# Altium schematic symbol library hphonglib.SchLib: 598 symbols (part 4 of 8)
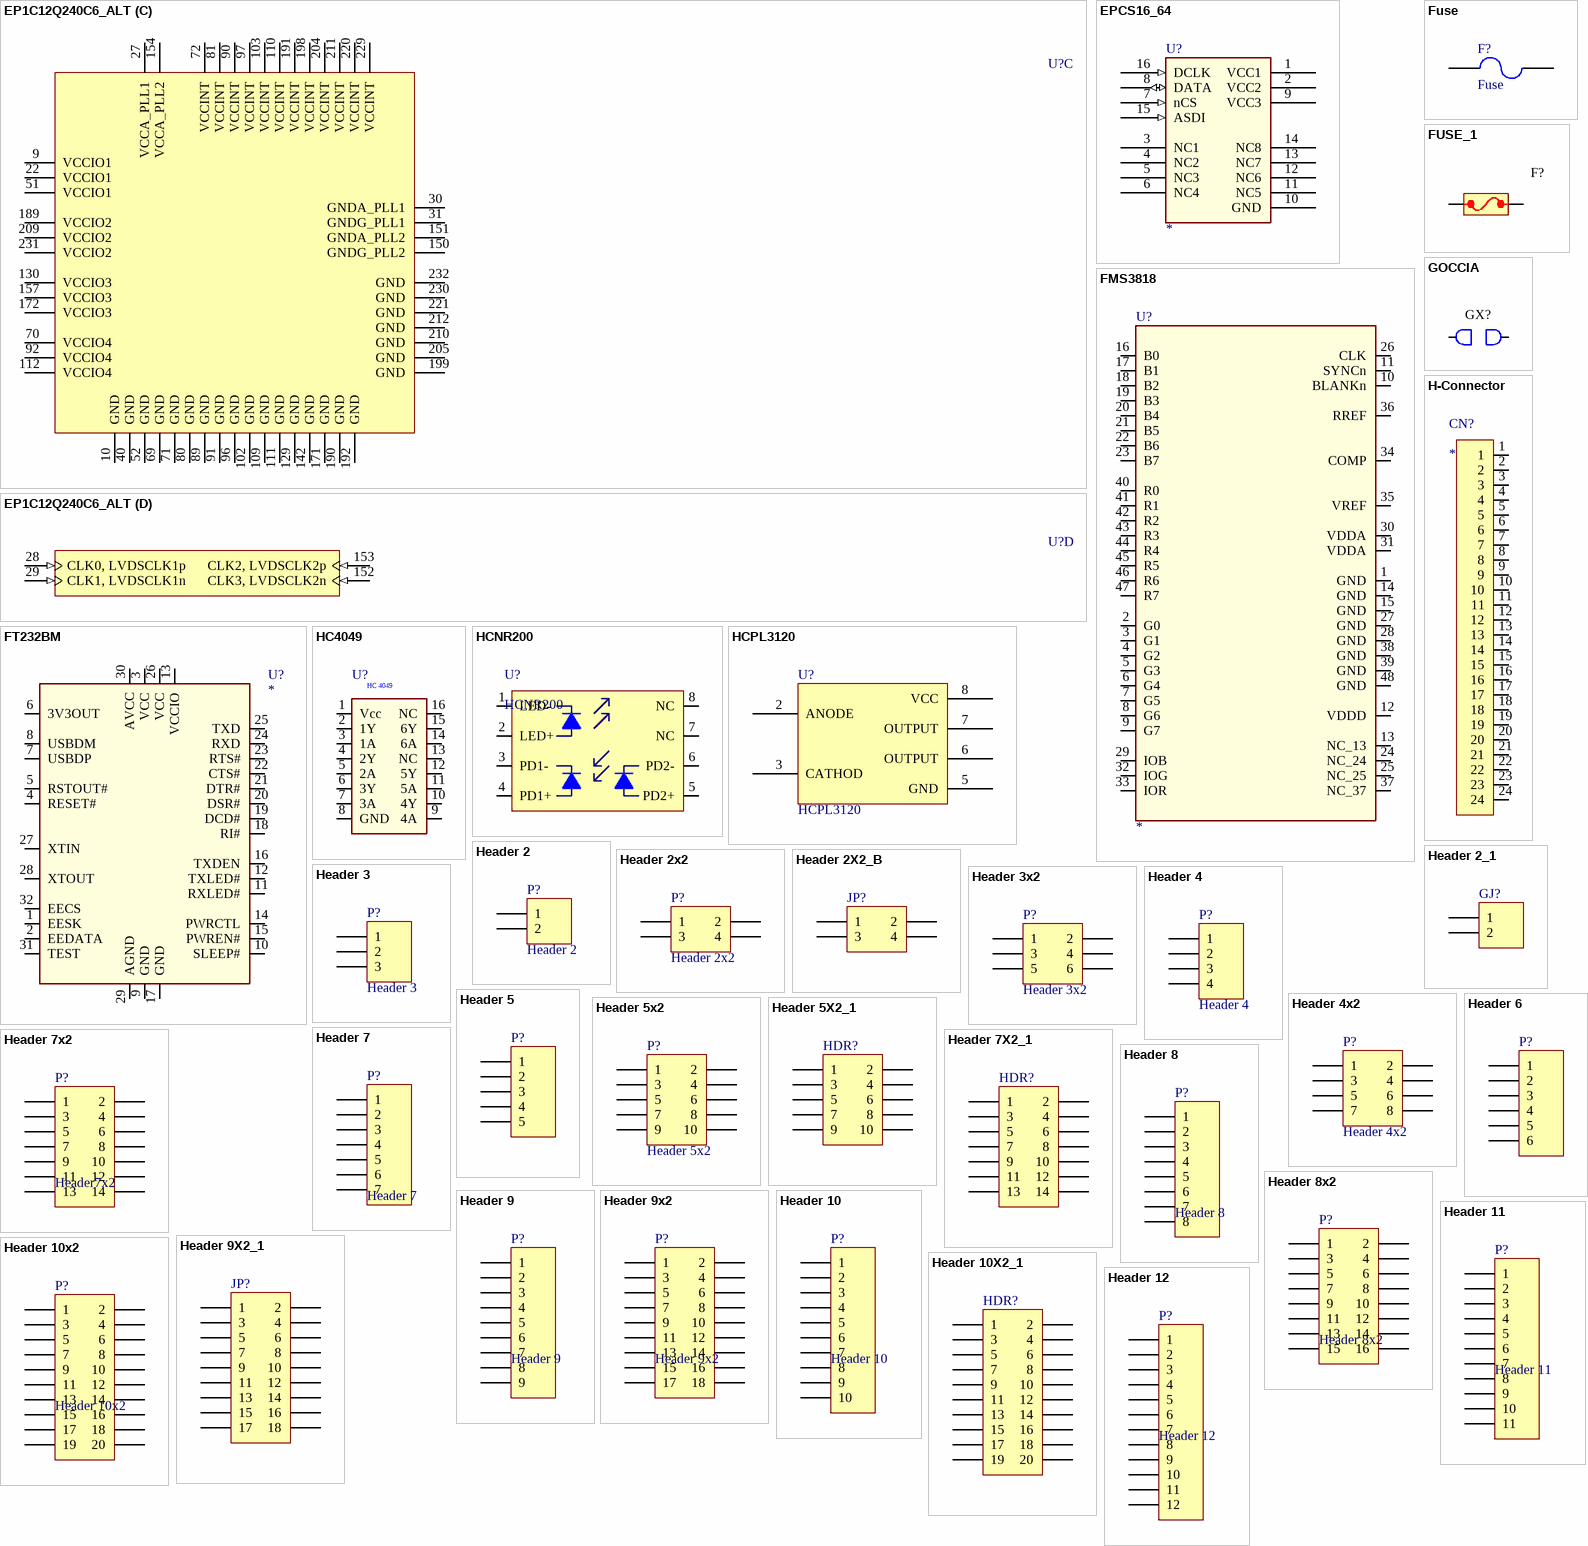
[diagram p34: symbols EP1C12Q240C6_ALT to Header 12]

## Header 11
designator P?
Header, 11-Pin; LatestRevisionDate: 17-Jul-2002; LatestRevisionNote: Re-released for DXP Platform.; Publisher: Altium Limited
footprint Header 11 (Connector; Header; 11 Position; Solder Pad 35mil)
footprint Header 11-V (Connector; Header; 11 Position; Vertical; Solder Pad 35mil)
pins: 1, 2, 3, 4, 5, 6, 7, 8, 9, 10, 11

## Header 12
designator P?
Header, 11-Pin; LatestRevisionDate: 17-Jul-2002; LatestRevisionNote: Re-released for DXP Platform.; Publisher: Altium Limited
footprint Header 12 (Connector; Header; 12 Position; Solder Pad 35mil)
footprint Header 12-V (Connector; Header; 12 Position; Vertical; Solder Pad 35mil)
pins: 1, 2, 3, 4, 5, 6, 7, 8, 9, 10, 11, 12

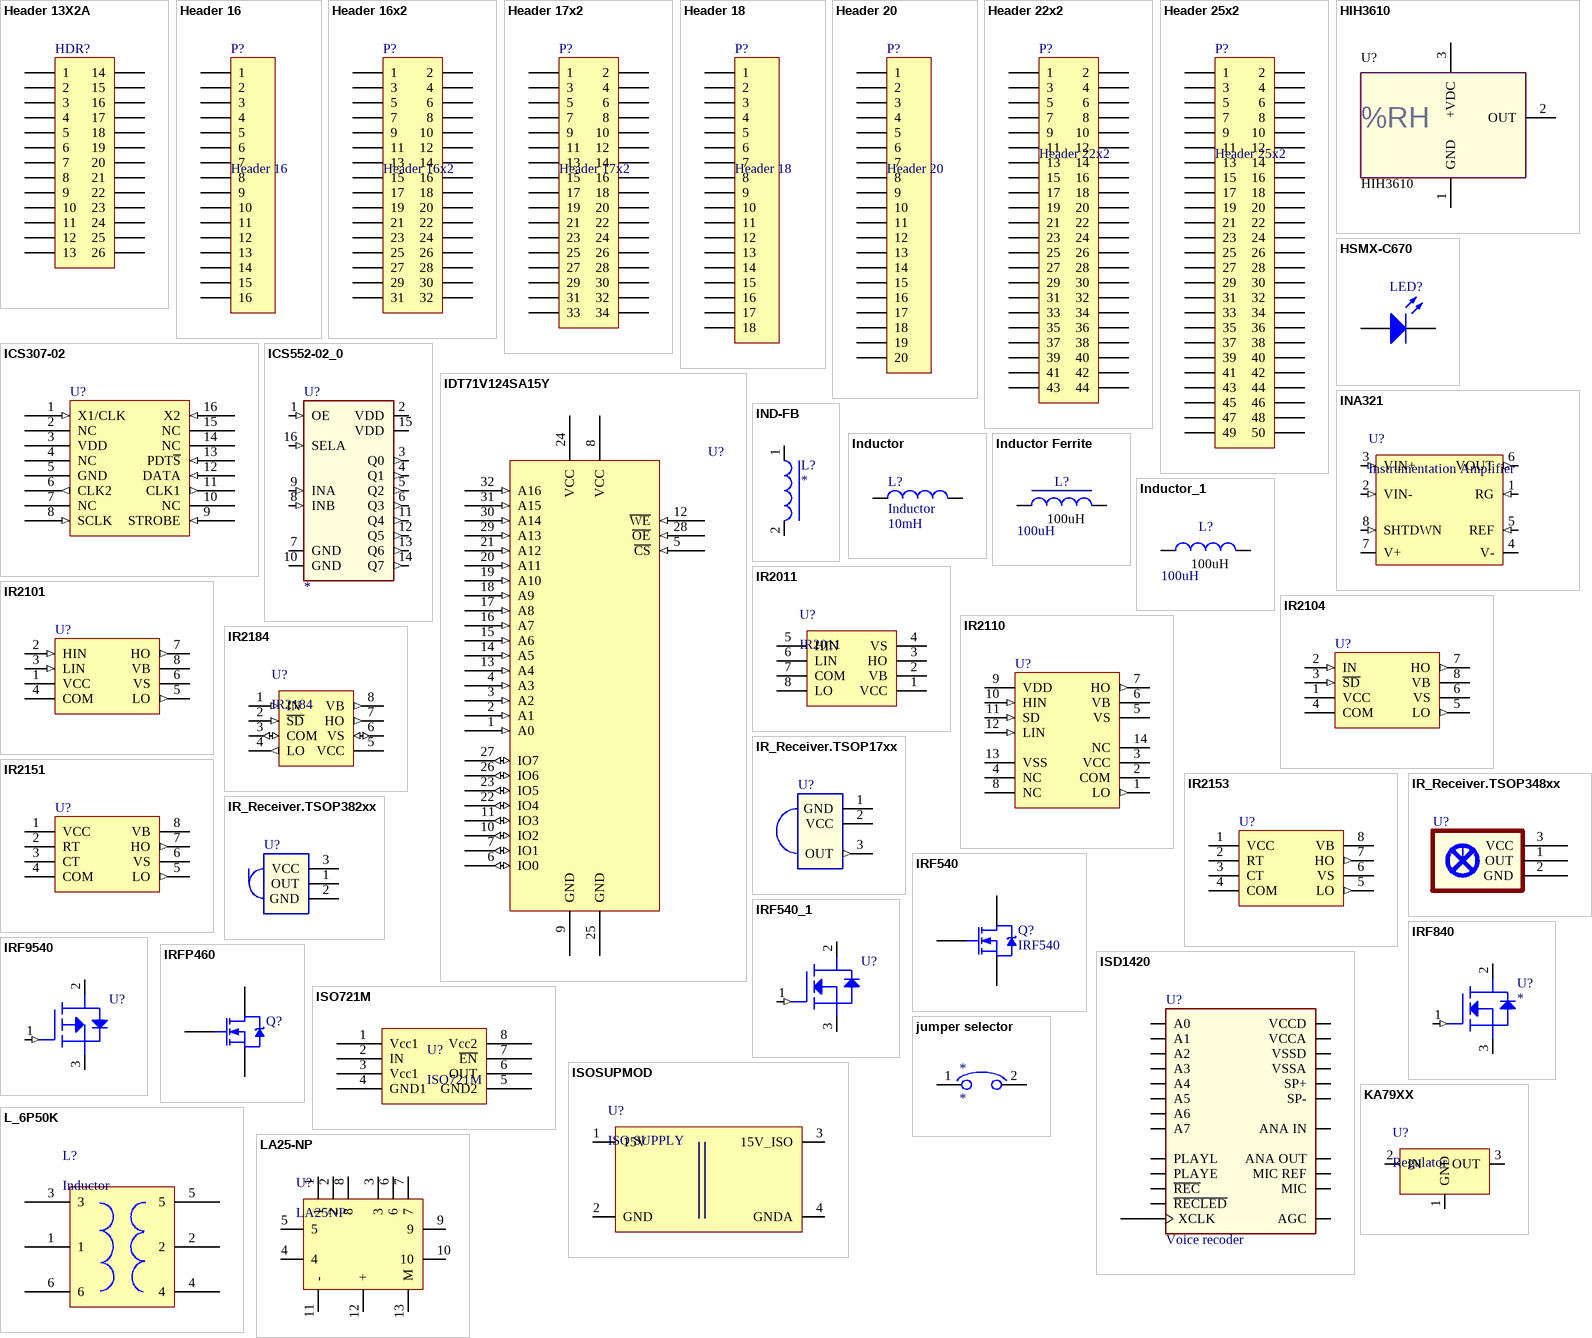
[diagram p13: symbols Header 13X2A to LA25-NP]

## Header 13X2A
designator HDR?
3012 Series Box Header, 26 Pins, Dual Row, 2.54mm pitch, Low Profile Vertical; Vendor: Digikey; Published: 5-Jan-2004; Publisher: Altium Limited; ComponentLink1Description: Digikey Part Link; ComponentLink2Description: Open Datasheet; ComponentLink2URL: H:\LIBRARY\LIBRARY.Datasheet\
footprint HDR2X13_CEN_LP (3012 Series Box Header, 26 Pins, Dual Row, 2.54mm Pitch)
pcadlib HDR2X13_CEN_LP (3012 Series Box Header, 26 Pins, Dual Row, 2.54mm Pitch)
pins: 1, 2, 3, 4, 5, 6, 7, 8, 9, 10, 11, 12, 13, 14, 15, 16, 17, 18, 19, 20, 21, 22, 23, 24, 25, 26

## Header 16
designator P?
Header, 16-Pin; LatestRevisionDate: 17-Jul-2002; LatestRevisionNote: Re-released for DXP Platform.; Publisher: Altium Limited
footprint Header 16 (Connector; Header; 16 Position; Solder Pad 35mil)
footprint Header 16-V (Connector; Header; 16 Position; Vertical; Solder Pad 35mil)
pins: 1, 2, 3, 4, 5, 6, 7, 8, 9, 10, 11, 12, 13, 14, 15, 16

## Header 16x2
designator P?
Header, 34-Pin; LatestRevisionDate: 17-Jul-2002; LatestRevisionNote: Re-released for DXP Platform.; Publisher: Altium Limited
footprint Header 16x2 (Connector; Header; 32 Position; 2 Rows; Solder Pad 35mil)
pins: 1, 2, 3, 4, 5, 6, 7, 8, 9, 10, 11, 12, 13, 14, 15, 16, 17, 18, 19, 20, 21, 22, 23, 24, 25, 26, 27, 28, 29, 30, 31, 32

## Header 17x2
designator P?
Header, 34-Pin; LatestRevisionDate: 17-Jul-2002; LatestRevisionNote: Re-released for DXP Platform.; Publisher: Altium Limited
footprint Header 17x2 (Connector; Header; 34 Position; 2 Rows; Solder Pad 35mil)
pins: 1, 2, 3, 4, 5, 6, 7, 8, 9, 10, 11, 12, 13, 14, 15, 16, 17, 18, 19, 20, 21, 22, 23, 24, 25, 26, 27, 28, 29, 30, 31, 32, 33, 34

## Header 18
designator P?
Header, 18-Pin; LatestRevisionDate: 17-Jul-2002; LatestRevisionNote: Re-released for DXP Platform.; Publisher: Altium Limited
footprint Header 18 (Connector; Header; 18 Position; Solder Pad 35mil)
footprint Header 18-V (Connector; Header; 18 Position; Vertical; Solder Pad 35mil)
pins: 1, 2, 3, 4, 5, 6, 7, 8, 9, 10, 11, 12, 13, 14, 15, 16, 17, 18

## Header 20
designator P?
Header, 20-Pin; LatestRevisionDate: 17-Jul-2002; LatestRevisionNote: Re-released for DXP Platform.; Publisher: Altium Limited
footprint Header 20 (Connector; Header; 20 Position; Solder Pad 35mil)
footprint Header 20-V (Connector; Header; 20 Position; Vertical; Solder Pad 35mil)
pins: 1, 2, 3, 4, 5, 6, 7, 8, 9, 10, 11, 12, 13, 14, 15, 16, 17, 18, 19, 20

## Header 22x2
designator P?
Header, 44-Pin, 2-Row; LatestRevisionDate: 17-Jul-2002; LatestRevisionNote: Re-released for DXP Platform.; Publisher: Altium Limited
footprint Header 22x2 (Connector; Header; 44 Position; 2 Rows)
footprint M_Header 22x2 (Connector; Header; 44 Position; 2 Rows; Manufacture-Solder Pad 24mil)
pins: 1, 2, 3, 4, 5, 6, 7, 8, 9, 10, 11, 12, 13, 14, 15, 16, 17, 18, 19, 20, 21, 22, 23, 24, 25, 26, 27, 28, 29, 30, 31, 32, 33, 34, 35, 36, 37, 38, 39, 40, 41, 42, 43, 44

## Header 25x2
designator P?
Header, 50-Pin, 2-Row; LatestRevisionDate: 17-Jul-2002; LatestRevisionNote: Re-released for DXP Platform.; Publisher: Altium Limited
footprint Header 25x2 (Connector; Header; 50 Position; 2 Rows; Solder Pad 35mil)
pins: 1, 2, 3, 4, 5, 6, 7, 8, 9, 10, 11, 12, 13, 14, 15, 16, 17, 18, 19, 20, 21, 22, 23, 24, 25, 26, 27, 28, 29, 30, 31, 32, 33, 34, 35, 36, 37, 38, 39, 40, 41, 42, 43, 44, 45, 46, 47, 48, 49, 50

## HIH3610
designator U?
Humidity sensor; Value: *; ComponentLink2URL: H:\LIBRARY\LIBRARY.Datasheet\
footprint HIH3610
pins: 1 GND, 2 OUT, 3 +VDC
text: %RH

## HSMX-C670
designator LED?
RED AS AlGaAs SMD LED; Vendor: Digikey; Published: 5-Jan-2004; DatasheetDocument: 30-Apr-2002; Publisher: Altium Limited; ComponentLink1Description: Digikey Part Link; ComponentLink2Description: Open Datasheet; ComponentLink2URL: H:\LIBRARY\LIBRARY.Datasheet\
footprint SMD _LED (RED AS AlGaAs SMD LED, Body; 2mm x 1.25 mm (LxW))
pcadlib SMD _LED (RED AS AlGaAs SMD LED, Body; 2mm x 1.25 mm (LxW))
pins: 1 A, 2 K

## ICS307-02
designator U?
Serially Programmable Clock Source; Vendor: Digikey; Published: 5-Jan-2004; DatasheetDocument: 03-Jun-2003; Publisher: Altium Limited; ComponentLink1Description: Digikey Part Link; ComponentLink2Description: Open Datasheet; ComponentLink2URL: H:\LIBRARY\LIBRARY.Datasheet\
footprint SO-G16 (Small Outline; 16 Leads; Body Width 3.5 mm; Pitch 1.27 mm)
pcadlib SO-G16 (Small Outline; 16 Leads; Body Width 3.5 mm; Pitch 1.27 mm)
pins: 1 X1/CLK (in) "Reference Word Devider Input", 2 NC "Reference Word Devider Input", 3 VDD (power) "Positive Supply, 3V3 or 5V", 4 NC, 5 GND (power), 6 CLK2 (out) "Fixed Clock Ref", 7 NC "Crystal connection", 8 SCLK (in) "Serial Programming Clock", 9 STROBE (in) "Serial Programming Strobe", 10 NC, 11 CLK1 (out) "Variable Clock Output", 12 DATA (in) "Serial Programming Data", 13 PDT~{S} (in) "Low = TriState CLK1 and CLK2 and Power Down", 14 NC, 15 NC, 16 X2 (in) "Crystal Terminal"

## ICS552-02_0
designator U?
ComponentLink1Description: Digikey Part Link; ComponentLink2Description: Open Datasheet; ComponentLink2URL: H:\LIBRARY\LIBRARY.Datasheet\
footprint 8_LEAD_SOIC
pins: 1 OE (in), 2 VDD (power), 3 Q0 (out), 4 Q1 (out), 5 Q2 (out), 6 Q3 (out), 7 GND (power), 8 INB (in), 9 INA (in), 10 GND (power), 11 Q4 (out), 12 Q5 (out), 13 Q6 (out), 14 Q7 (out), 15 VDD (power), 16 SELA (in)

## IDT71V124SA15Y
designator U?
CMOS Static RAM, 3.3V, 128K x 8 bit; Vendor: Digikey; Published: 5-Jan-2004; DatasheetDocument: 30-Nov-2003; Publisher: Altium Limited; ComponentLink1Description: Digikey Part Link; ComponentLink2Description: Open Datasheet; ComponentLink2URL: H:\LIBRARY\LIBRARY.Datasheet\
footprint SO-J32 (SOJ; 32 Leads; Body Width 7.5 mm; Pitch 1.27 mm)
pcadlib SO-J32 (SOJ; 32 Leads; Body Width 7.5 mm; Pitch 1.27 mm)
pins: 1 A0 (in) "Address 0", 2 A1 (in) "Address 1", 3 A2 (in) "Address 3", 4 A3 (in) "Address 3", 5 ~{CS} (in) "Chip Select", 6 IO0 (io) "Data 0", 7 IO1 (io) "Data 1", 8 VCC (power) "Pos Supply", 9 GND (power), 10 IO2 (io) "Data 2", 11 IO3 (io) "Data 3", 12 ~{WE} (in) "Write Enable", 13 A4 (in) "Address 4", 14 A5 (in) "Address 5", 15 A6 (in) "Address 6", 16 A7 (in) "Address 7", 17 A8 (in) "Address 8", 18 A9 (in) "Address 9", 19 A10 (in) "Address 10", 20 A11 (in) "Address 11", 21 A12 (in) "Address 12", 22 IO4 (io) "Data 4", 23 IO5 (io) "Data 5", 24 VCC (power) "Pos Supply", 25 GND (power), 26 IO6 (io) "Data 6", 27 IO7 (io) "Data 7", 28 ~{OE} (in) "Output Enable", 29 A13 (in) "Address 13", 30 A14 (in) "Address 14", 31 A15 (in) "Address 15", 32 A16 (in) "Address 16"

## INA321
designator U?, comment Instrumentation Amplifier
microPower, Single-Supply, CMOS Instrumentation Amplifier; Manufacturer: Texas Instrument; Vendor: Digikey; Publisher: Hoang Nguyen; ComponentLink1Description: Digikey Part Link; ComponentLink1URL: http://search.digikey.com/scripts/DkSearch/dksus.dll?Detail&name=INA321EACT-ND; ComponentLink2URL: H:\LIBRARY\LIBRARY.Datasheet\ina321.pdf; ComponentLink2Description: Open Datasheet; Price: 2.7 [USD]; Published: 13-April-2009
footprint SOP8.S-PDSO-G8
pins: 1 RG (in), 2 VIN- (in), 3 VIN+ (in), 4 V- (power), 5 REF (in), 6 VOUT (out), 7 V+ (power), 8 SHTDWN (in)

## IND-FB
designator L?
ComponentLink1Description: Digikey Part Link; ComponentLink2Description: Open Datasheet; ComponentLink2URL: H:\LIBRARY\LIBRARY.Datasheet\
pins: 1, 2

## Inductor
designator L?  value 10mH
Code_IEC: 1005; Published: 8-Jun-2000; LatestRevisionDate: 17-Jul-2002; LatestRevisionNote: Re-released for DXP Platform.; PackageReference: 0402-A; Publisher: Altium Limited; Code_JEITA: 0402
footprint Inductor 5A (Inductor 5A; Solder Pad 35mil)
footprint L-0805 (Chip Inductor; Body 2.0 x 1.3 mm (LxW typ))
footprint Coil (Ferrite Coil; Filter; Solder Pad 35mil)
pins: 1, 2

## Inductor Ferrite
designator L?, comment 100uH
Cuon Cam L; Code_IEC: 1005; Vendor: Digikey; Published: 8-Jun-2000; LatestRevisionDate: 17-Jul-2002; LatestRevisionNote: Re-released for DXP Platform.; PackageReference: 0402-A; Publisher: Altium Limited; Code_JEITA: 0402; ComponentLink1Description: Digikey Part Link; ComponentLink2Description: Open Datasheet; ComponentLink2URL: H:\LIBRARY\LIBRARY.Datasheet\; Value: 100uH
signal-integrity model Inductor
footprint IMPESMD1
footprint Cuon day ferrite
footprint loi ferrit 2A (Body round radial diam 7.5mm - hight 9.5mm)
footprint ferrite bead (Res 8mm*2mm)
footprint IMPE6 (Body 8.0x5.6 mm Radial - 200 mils)
pins: 1, 2

## Inductor_1
designator L?, comment 100uH
Cuon Cam L; Code_IEC: 1005; Vendor: Digikey; Published: 8-Jun-2000; LatestRevisionDate: 17-Jul-2002; LatestRevisionNote: Re-released for DXP Platform.; PackageReference: 0402-A; Publisher: Altium Limited; Code_JEITA: 0402; ComponentLink1Description: Digikey Part Link; ComponentLink2Description: Open Datasheet; ComponentLink2URL: H:\LIBRARY\LIBRARY.Datasheet\; Value: 100uH
signal-integrity model Inductor
footprint IMPE1 (Body 23x10 mm Horiz. - 900 mils)
footprint IMPE2 (Body 10x7.5 mm Horiz. - 600 mils)
footprint IMPE3 (Body 7.6x4.9 mm Radial - 300 mils)
footprint IMPE4 (Body 7.6x5.5 mm Radial - 250 mils)
footprint IMPE5 (Body 7.3x4.4 mm Radial - 200 mils)
footprint IMPE6 (Body 8.0x5.6 mm Radial - 200 mils)
footprint IMPE7-RS1 (Body round radial diam 7.5mm - hight 9.5mm)
footprint IMPE8-RS2 (Body round radial diam 10mm - hight 18mm)
footprint IMPESMD1
footprint L2012-0805 (Inductor Chip 0805 package)
footprint L1608-0603 (Inductor Chip 0603 package)
footprint Cuon day ferrite
pins: 1, 2

## IR2011
designator U?
HALF-BRIDGE DRIVER; Voffset: 600V(max); IO+/-: 130mA/270mA; Vout: 10-20V; Deadtime: 520ns; Input logic: 3V3/5V/15V
footprint Dip8 (Dual Inline Package 8 pins)
footprint dip8N (Dual Inline Package 8 pins)
footprint SOIC8N
pins: 1 VCC (power), 2 VB (power), 3 HO (power), 4 VS (power), 5 HIN (power), 6 LIN (power), 7 COM (power), 8 LO (power)

## IR2101
designator U?
High and Low Side Driver; Published: 8-Jun-2000; LatestRevisionDate: 04-Mar-2005; LatestRevisionNote: Stylized 3D Model Added.; DatasheetDocument: PD60043J; PackageReference: PDIP8; Publisher: Altium Limited; Code_JEDEC: MO-001-AN; ComponentLink1Description: Manufacturer Link; ComponentLink1URL: http://www.irf.com/
footprint DIP-8 (DIP, 8-Pin, Row Spacing 7.62 mm, Pitch 2.54 mm)
pins: 1 VCC (power), 2 HIN (in), 3 LIN (in), 4 COM (power), 5 LO (out), 6 VS (power), 7 HO (out), 8 VB (power)

## IR2104
designator U?
High and Low Side Driver; Published: 8-Jun-2000; LatestRevisionDate: 04-Mar-2005; LatestRevisionNote: Stylized 3D Model Added.; DatasheetDocument: PD600461; PackageReference: PDIP8; Publisher: Altium Limited; Code_JEDEC: MO-001-AN; ComponentLink1Description: Manufacturer Link; ComponentLink1URL: http://www.irf.com/; ComponentLink2Description: Datasheet; ComponentLink2URL: http://www.irf.com/product-info/datasheets/data/ir2104.pdf
footprint DIP-8 (DIP, 8-Pin, Row Spacing 7.62 mm, Pitch 2.54 mm)
pins: 1 VCC (power), 2 IN (in), 3 ~{SD} (in), 4 COM (power), 5 LO (out), 6 VS (power), 7 HO (out), 8 VB (power)

## IR2110
designator U?
High and Low Side Driver; Note: Pins 4, 8 and 14 are not connected; Published: 8-Jun-2000; LatestRevisionDate: 04-Mar-2005; LatestRevisionNote: Stylized 3D Model Added.; DatasheetDocument: PD60147J; PackageReference: PDIP14; Publisher: Altium Limited; ComponentLink1Description: Manufacturer Link; ComponentLink1URL: http://www.irf.com/; ComponentLink2Description: Datasheet; ComponentLink2URL: http://www.irf.com/product-info/datasheets/data/ir2110.pdf
footprint DIP-14 (DIP, 14-Pin, Row Spacing 7.62 mm, Pitch 2.54 mm)
pins: 1 LO (out), 2 COM (power), 3 VCC (power), 4 NC, 5 VS (power), 6 VB (power), 7 HO (out), 8 NC, 9 VDD (power), 10 HIN (in), 11 SD (in), 12 LIN (in), 13 VSS (power), 14 NC

## IR2151
designator U?
Self-Oscillating Half-Bridge Driver; Published: 8-Jun-2000; LatestRevisionDate: 04-Mar-2005; LatestRevisionNote: Stylized 3D Model Added.; DatasheetDocument: Mar-1999; PackageReference: PDIP8; Publisher: Altium Limited; Code_JEDEC: MO-001-AN; ComponentLink1Description: Manufacturer Link; ComponentLink1URL: http://www.irf.com/; ComponentLink2Description: Datasheet; ComponentLink2URL: http://www.irf.com/product-info/datasheets/data/ir2151.pdf
footprint DIP-8 (DIP, 8-Pin, Row Spacing 7.62 mm, Pitch 2.54 mm)
pins: 1 VCC (power), 2 RT, 3 CT, 4 COM (power), 5 LO (out), 6 VS (power), 7 HO (out), 8 VB (power)

## IR2153
designator U?
Self-Oscillating Half-Bridge Driver; Published: 8-Jun-2000; LatestRevisionDate: 04-Mar-2005; LatestRevisionNote: Stylized 3D Model Added.; DatasheetDocument: PD60062J; PackageReference: PDIP8; Publisher: Altium Limited; Code_JEDEC: MO-001-AN; ComponentLink1Description: Manufacturer Link; ComponentLink1URL: http://www.irf.com/; ComponentLink2Description: Datasheet; ComponentLink2URL: http://www.irf.com/product-info/datasheets/data/ir2153.pdf
footprint DIP-8 (DIP, 8-Pin, Row Spacing 7.62 mm, Pitch 2.54 mm)
pins: 1 VCC (power), 2 RT, 3 CT, 4 COM (power), 5 LO (out), 6 VS (power), 7 HO (out), 8 VB (power)

## IR2184
designator U?
HALF-BRIDGE DRIVER; Voffset: 600V(max); IO+/-: 130mA/270mA; Vout: 10-20V; Deadtime: 520ns; Input logic: 3V3/5V
footprint Dip8 (Dual Inline Package 8 pins)
footprint dip8N (Dual Inline Package 8 pins)
footprint SOIC8N
pins: 1 IN (in), 2 ~{SD} (in), 3 COM (io), 4 LO (out), 5 VCC (power), 6 VS (io), 7 HO (out), 8 VB (out)

## IR_Receiver.TSOP17xx
designator U?  (value not drawn)
Mat Thu tia hong ngoai TSOP17xx; Manufacturer: Vishay Semiconductors; Vendor: Digikey; Value: TSOP1738 38Khz; Published: 13-April-2009; Publisher: Hoang Nguyen; ComponentLink1Description: Digikey Part Link; ComponentLink2Description: Open Datasheet; ComponentLink2URL: H:\LIBRARY\LIBRARY.Datasheet\TSOP 17...pdf; Price: 500 VND
footprint ir receiver (IR Receiver)
pins: 1 GND (power), 2 VCC (power), 3 OUT (out)

## IR_Receiver.TSOP348xx
designator U?  (value not drawn)
Mat Thu tia hong ngoai TSOP348xx; Manufacturer: Vishay Semiconductors; Vendor: Digikey; Value: TSOP34840 - 40Khz; Published: 13-April-2009; Publisher: Hoang Nguyen; ComponentLink1Description: Digikey Part Link; ComponentLink2Description: Open Datasheet; ComponentLink2URL: H:\LIBRARY\LIBRARY.Datasheet\TSOP348xx.pdf
pins: 1 OUT, 2 GND (power), 3 VCC (power)

## IR_Receiver.TSOP382xx
designator U?  (value not drawn)
Mat Thu tia hong ngoai TSOP382xx; Manufacturer: Vishay Semiconductors; Vendor: Digikey; Value: TSOP38238 - 38Khz; Published: 13-April-2009; Publisher: Hoang Nguyen; ComponentLink1Description: Digikey Part Link; ComponentLink2Description: Open Datasheet; ComponentLink2URL: H:\LIBRARY\LIBRARY.Datasheet\TSOP382xx.pdf
pins: 1 OUT, 2 GND (power), 3 VCC (power)

## IRF540
designator Q?
HEXFET N-Channel Power MOSFET; Note: Pin 2 is electrically connected to pin 4.; Published: 8-Jun-2000; LatestRevisionDate: 17-Jul-2002; LatestRevisionNote: Re-released for DXP Platform.; DatasheetVersion: PD-9.373H; PackageVersion: Feb-1997; PackageReference: TO-220AB; Publisher: Altium Limited; PackageDescription: TO, Thru-Hole, Vertical, Heatsink Mounted; 3 In-Line Leads; Pitch 2.54 mm; ComponentLink1Description: Manufacturer Link; ComponentLink1URL: http://www.irf.com/
footprint TO-220-3 (TO-220; 3 Leads; Solder Pad 35mil)
footprint TO-220-3-Heatsink (TO-220; Heatsink; 3 Leads; Solder Pad 35mil)
pins: 1 G, 2 D, 3 S

## IRF540_1
designator U?  (value not drawn)
IRF9540 - N-CHANNEL POWER MOSFETS; Vendor: Digikey; Publisher: Hoang Nguyen; Price: 7.000 VND; ComponentLink2Description: Open Datasheet; ComponentLink2URL: H:\LIBRARY\LIBRARY.Datasheet\IRF540.pdf; Published: 13-April-2009; ComponentLink1Description: Digikey Part Link
footprint TO-263
footprint TO-220
footprint TO-220N
footprint TO220_Horizontal (TO, Thru-Hole, Horizontal Heatsink Mounted; 3 In-Line Leads; Pitch 2.54 mm)
footprint TO220_Hor_N (TO, Thru-Hole, Horizontal Heatsink Mounted; 3 In-Line Leads; Pitch 2.54 mm)
pins: 1 G (in), 2 D, 3 S

## IRF840
designator U?
Power FET; Vendor: Digikey; Published: 13-April-2009; Publisher: Hoang Nguyen; ComponentLink1Description: Digikey Part Link; ComponentLink2Description: Open Datasheet; ComponentLink2URL: H:\LIBRARY\LIBRARY.Datasheet\
pins: 1 G (in), 2 D, 3 S

## IRF9540
designator U?  (value not drawn)
IRF9540 - P-CHANNEL POWER MOSFETS; Vendor: Digikey; Publisher: Hoang Nguyen; Price: 7.000 VND; ComponentLink2Description: Open Datasheet; ComponentLink2URL: H:\LIBRARY\LIBRARY.Datasheet\IRF9540.pdf; Published: 13-April-2009; ComponentLink1Description: Digikey Part Link
footprint TO-263
footprint TO-220
footprint TO-220N
footprint TO220_Horizontal (TO, Thru-Hole, Horizontal Heatsink Mounted; 3 In-Line Leads; Pitch 2.54 mm)
footprint TO220_Hor_N (TO, Thru-Hole, Horizontal Heatsink Mounted; 3 In-Line Leads; Pitch 2.54 mm)
pins: 1 G (in), 2 D, 3 S

## IRFP460
designator Q?
HEXFET Power MOSFET; Note: Pin 2 is electrically connected to the Heatsink (4).; Published: 8-Jun-2000; LatestRevisionDate: 17-Jul-2002; LatestRevisionNote: Re-released for DXP Platform.; DatasheetVersion: PD-9.512B; PackageVersion: Aug-1997; PackageReference: TO-247AC; Publisher: Altium Limited; PackageDescription: SIP with Mounting Hole; 3 Leads; Body 20 x 15.6 x 5 mm (typ); Pitch 5.45 mm; Code_JEDEC: TO-247-AC; ComponentLink1Description: Manufacturer Link; ComponentLink1URL: http://www.irf.com/; ComponentLink2Description: Datasheet; ComponentLink2URL: http://www.irf.com/product-info/datasheets/data/irfp460.pdf
footprint TO-247 (TO-247; 3 Leads; Solder Pad 60mil)
simulation model IRFP460 (SUBCKT)
footprint TO-247-V (TO-247; Vertical; 3 Leads; Solder Pad 60mil)
pins: 1 G, 2 D, 3 S

## ISD1420
designator U?, comment Voice recoder
Voice recode / Playback 20-second duration; Manufacturer: Winbond Electronics Corp.; Vendor: TMe; Published: 13-April-2009; Publisher: Hoang Nguyen; ComponentLink1Description: Digikey Part Link; ComponentLink2Description: Open Datasheet; Price: 100.000 VND; ComponentLink2URL: H:\LIBRARY\LIBRARY.Datasheet\ISD1400_Rev1.3.pdf
pins: 1 A0, 2 A1, 3 A2, 4 A3, 5 A4, 6 A5, 9 A6, 10 A7, 12 VSSD (power), 13 VSSA (power), 14 SP+, 15 SP-, 16 VCCA (power), 17 MIC, 18 MIC REF, 19 AGC, 20 ANA IN, 21 ANA OUT, 23 PLAYL, 24 PLAYE, 25 ~{RECLED}, 26 XCLK, 27 ~{REC}, 28 VCCD (power)

## ISO721M
designator U?
3.3-V / 5-V High-speed Digital Isolators
footprint SOIC-8N (SOIC, 8-Leads, Body 4.9x3.9mm, Pitch 1.27mm, IPC High Density)
pins: 1 Vcc1, 2 IN, 3 Vcc1, 4 GND1, 5 GND2, 6 OUT, 7 ~{EN}, 8 Vcc2

## ISOSUPMOD
designator U?, comment ISO SUPPLY
pins: 1 15V, 2 GND, 3 15V_ISO, 4 GNDA

## jumper selector
designator *
pins: 1, 2

## KA79XX
designator U?, comment Regulator
footprint TO-220
pins: 1 GND, 2 IN, 3 OUT

## L_6P50K
designator L?, comment Inductor
footprint L_6P50K
pins: 1, 2, 3, 4, 5, 6

## LA25-NP
designator U?, comment LA25NP
footprint LA25NP (Current sensor 25A)
pins: 1, 2, 3, 4, 5, 6, 7, 8, 9, 10, 11 -, 12 +, 13 M

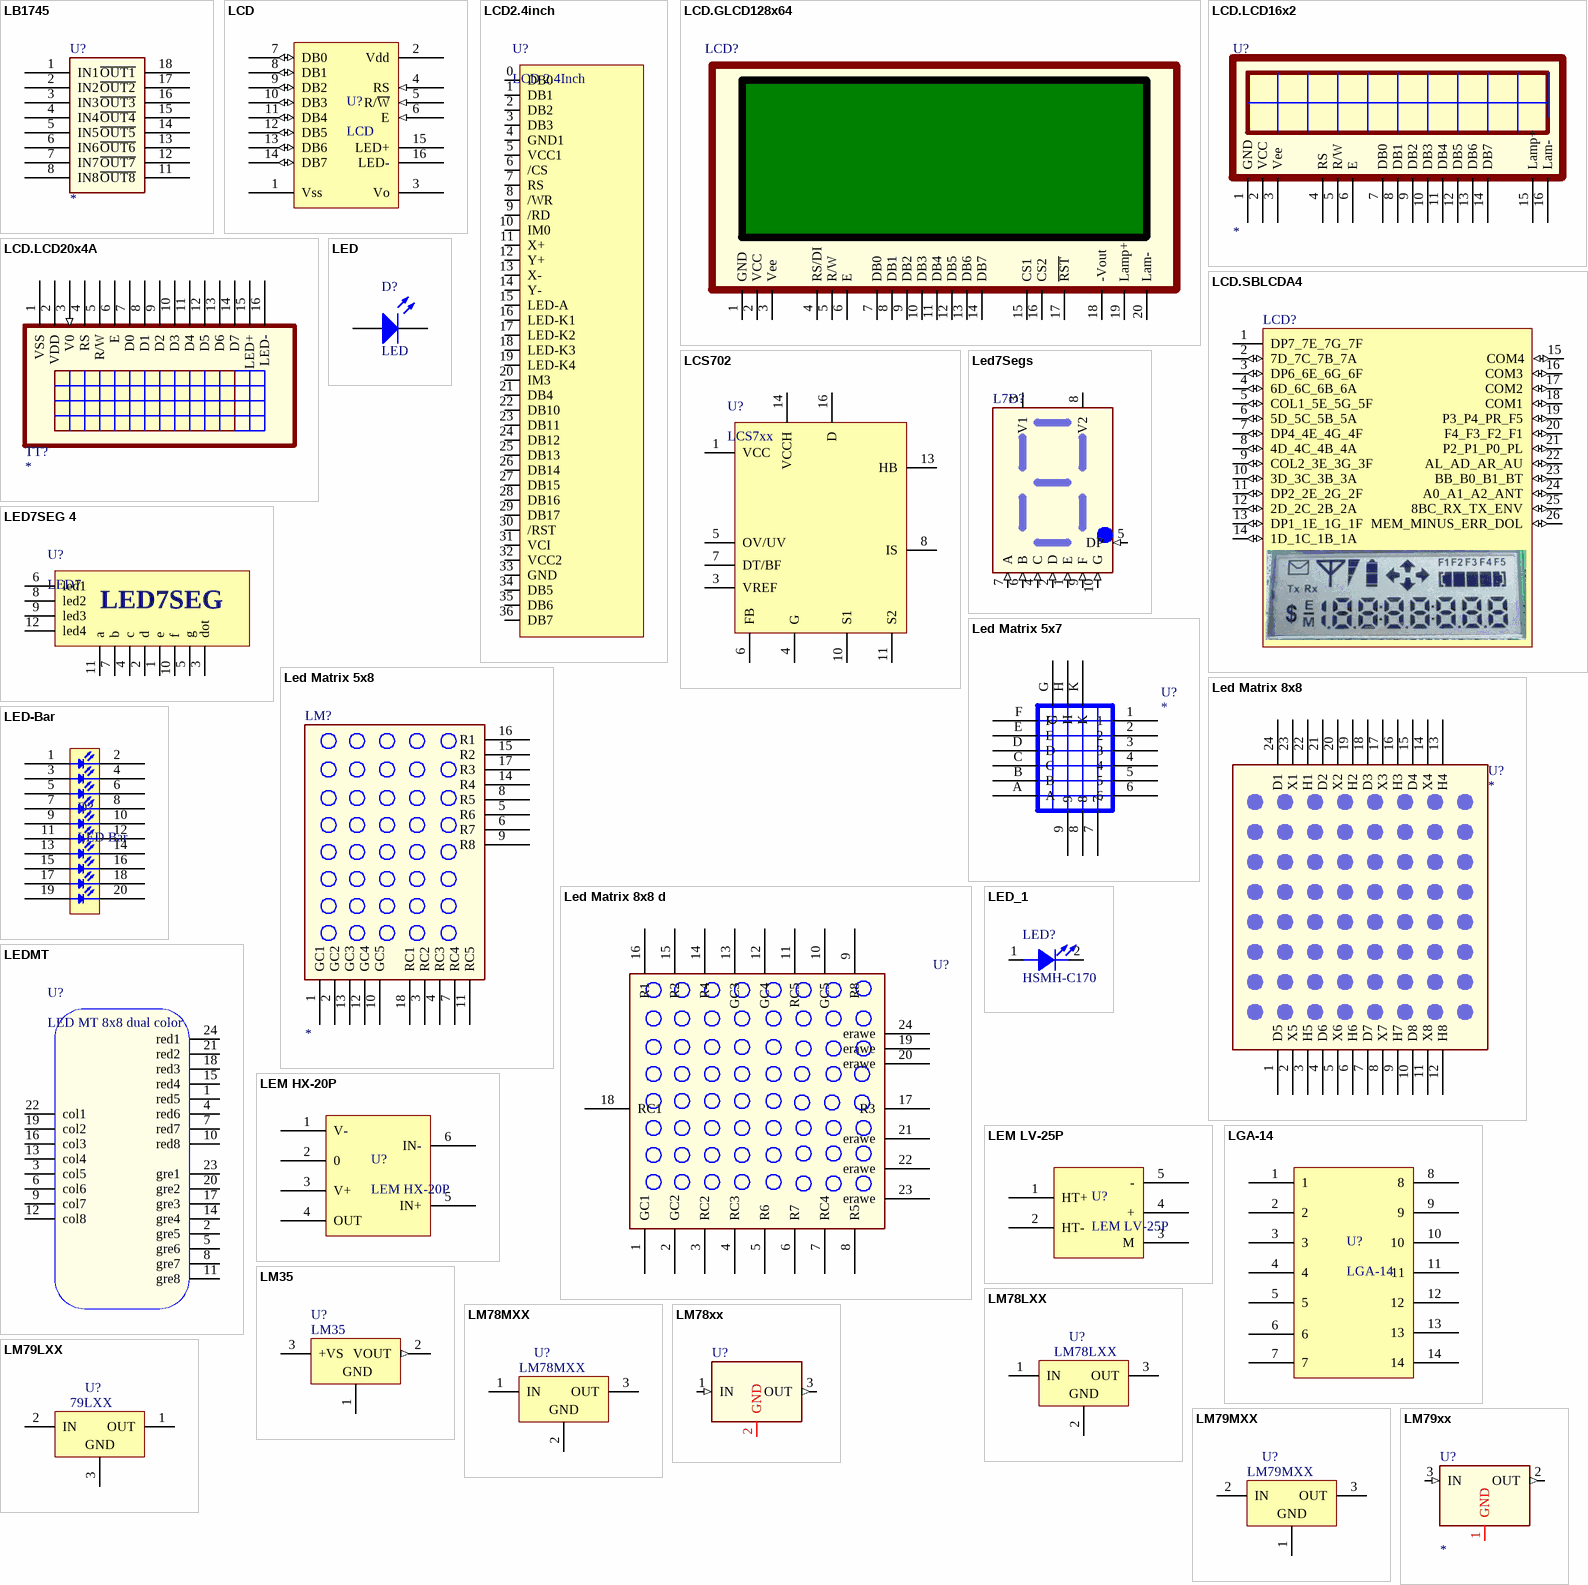
[diagram p14: symbols LB1745 to LM79xx]

## LB1745
designator U?
Vendor: Digikey; Published: 13-April-2009; Publisher: Hoang Nguyen; ComponentLink1Description: Digikey Part Link; ComponentLink2Description: Open Datasheet; ComponentLink2URL: H:\LIBRARY\LIBRARY.Datasheet\
footprint DIP18
pins: 1 IN1, 2 IN2, 3 IN3, 4 IN4, 5 IN5, 6 IN6, 7 IN7, 8 IN8, 9 VCC (power) hidden to VCC, 10 GND (power) hidden to GND, 11 ~{OUT8}, 12 ~{OUT7}, 13 ~{OUT6}, 14 ~{OUT5}, 15 ~{OUT4}, 16 ~{OUT3}, 17 ~{OUT2}, 18 ~{OUT1}

## LCD
designator U?
Character LCD, HD44780, 16-pin
footprint LCD-16x2 (Character LCD; 16x2; Solder Pad 35mil)
footprint LCD-20x2 (Character LCD; 20x2; Solder Pad 35mil)
pins: 1 Vss, 2 Vdd, 3 Vo, 4 RS (in), 5 R/~{W} (in), 6 E (in), 7 DB0 (io), 8 DB1 (io), 9 DB2 (io), 10 DB3 (io), 11 DB4 (io), 12 DB5 (io), 13 DB6 (io), 14 DB7 (io), 15 LED+, 16 LED-

## LCD2.4inch
designator U?, comment LCD 2.4Inch
footprint LCD2.4inch (www.wandisplay.com - KWH024Q04)
pins: 0 DB0, 1 DB1, 2 DB2, 3 DB3, 4 GND1, 5 VCC1, 6 /CS, 7 RS, 8 /WR, 9 /RD, 10 IM0, 11 X+, 12 Y+, 13 X-, 14 Y-, 15 LED-A, 16 LED-K1, 17 LED-K2, 18 LED-K3, 19 LED-K4, 20 IM3, 21 DB4, 22 DB10, 23 DB11, 24 DB12, 25 DB13, 26 DB14, 27 DB15, 28 DB16, 29 DB17, 30 /RST, 31 VCI, 32 VCC2, 33 GND, 34 DB5, 35 DB6, 36 DB7

## LCD.GLCD128x64
designator LCD?, comment GLCD128x64  (value not drawn)
Graphic LCD 128x64pixel; Price: 250.000VND; ComponentLink2Description: Open Datasheet; ComponentLink2URL: H:\LIBRARY\LIBRARY.Datasheet\
footprint LCD128x64 (Graphic LCD 128x64)
pins: 1 GND, 2 VCC, 3 Vee, 4 RS/DI, 5 R/W, 6 E, 7 DB0, 8 DB1, 9 DB2, 10 DB3, 11 DB4, 12 DB5, 13 DB6, 14 DB7, 15 CS1, 16 CS2, 17 ~{RST}, 18 -Vout, 19 Lamp+, 20 Lam-

## LCD.LCD16x2
designator U?
LCD 2 line 16 charactors; Vendor: Digikey; Published: 13-April-2009; Publisher: Hoang Nguyen; ComponentLink1Description: Digikey Part Link; ComponentLink2Description: Open Datasheet; ComponentLink2URL: H:\LIBRARY\LIBRARY.Datasheet\; Price: 65000VND
3D model 162a (PCB3D Model)
footprint LCD16x2 (Character LCD 16x2)
footprint 162A-SlottedPlastic (LCD and Mounting Moulding)
footprint LCD connector (Character LCD 16x2)
pins: 1 GND, 2 VCC, 3 Vee, 4 RS, 5 R/W, 6 E, 7 DB0, 8 DB1, 9 DB2, 10 DB3, 11 DB4, 12 DB5, 13 DB6, 14 DB7, 15 Lamp+, 16 Lam-

## LCD.LCD20x4A
designator TT?
LCD 4 line 20 charactors; Vendor: Digikey; Published: 13-April-2009; Publisher: Hoang Nguyen; ComponentLink1Description: Digikey Part Link; ComponentLink2Description: Open Datasheet; ComponentLink2URL: H:\LIBRARY\LIBRARY.Datasheet\
pins: 1 VSS (power), 2 VDD (power), 3 V0 (in), 4 RS, 5 R/W, 6 E, 7 D0, 8 D1, 9 D2, 10 D3, 11 D4, 12 D5, 13 D6, 14 D7, 15 LED+, 16 LED-

## LCD.SBLCDA4
designator LCD?  (value not drawn)
SoftBaugh LCD A4; Vendor: Digikey; Publisher: Hoang Nguyen; ComponentLink2Description: Open Datasheet; ComponentLink2URL: H:\LIBRARY\LIBRARY.Datasheet\SBLCDA4_Specification.pdf; Published: 13-April-2009; ComponentLink1Description: Digikey Part Link; Manufacturer: www.softbaugh.com
footprint SBLCDA4 (SoftBaugh LCD A4)
pins: 1 DP7_7E_7G_7F, 2 7D_7C_7B_7A (io), 3 DP6_6E_6G_6F (io), 4 6D_6C_6B_6A (io), 5 COL1_5E_5G_5F (io), 6 5D_5C_5B_5A (io), 7 DP4_4E_4G_4F (io), 8 4D_4C_4B_4A (io), 9 COL2_3E_3G_3F (io), 10 3D_3C_3B_3A (io), 11 DP2_2E_2G_2F (io), 12 2D_2C_2B_2A (io), 13 DP1_1E_1G_1F (io), 14 1D_1C_1B_1A (io), 15 COM4 (io), 16 COM3 (io), 17 COM2 (io), 18 COM1 (io), 19 P3_P4_PR_F5 (io), 20 F4_F3_F2_F1 (io), 21 P2_P1_P0_PL (io), 22 AL_AD_AR_AU (io), 23 BB_B0_B1_BT (io), 24 A0_A1_A2_ANT (io), 25 8BC_RX_TX_ENV (io), 26 MEM_MINUS_ERR_DOL (io)

## LCS702
designator U?, comment LCS7xx
footprint LCS7xx (LLC controller)
pins: 1 VCC, 3 VREF, 4 G, 5 OV/UV, 6 FB, 7 DT/BF, 8 IS, 10 S1, 11 S2, 13 HB, 14 VCCH, 16 D

## LED
designator D?
Typical LED; Published: 8-Jun-2000; LatestRevisionDate: 08-Jul-2005; LatestRevisionNote: Mech Layer 1 removed.; PackageReference: LED-1; Publisher: Altium Limited
footprint LED-1 GREEN (Typical LED; GREEN; 2 Leads; Solder Pad 35mil)
footprint LED-1 RED (Typical LED; RED; 2 Leads; Solder Pad 35mil)
footprint LED-1 YELLOW (Typical LED; YELLOW; 2 Leads; Solder Pad 35mil)
footprint LED-0 3mm GREEN (Typical LED; GREEN; RED; 2 Leads; Solder Pad 35mil)
footprint LED-0 3mm RED (Typical LED; RED; 2 Leads; Solder Pad 35mil)
footprint LED-0 3mm YELLOW (Typical LED; YELLOW; RED; 2 Leads; Solder Pad 35mil)
footprint LED-0 5mm BLUE (Typical LED; BLUE; 2 Leads; Solder Pad 35mil)
footprint LED-0 5mm GREEN (Typical LED; GREEN; 2 Leads; Solder Pad 35mil)
footprint LED-0 5mm ORANGE (Typical LED; ORANGE; 2 Leads; Solder Pad 35mil)
footprint LED-0 5mm RED (Typical LED; RED; 2 Leads; Solder Pad 35mil)
footprint LED-0 5mm YELLOW (Typical LED; YELLOW; 2 Leads; Solder Pad 35mil)
footprint LED-0805 BLUE (Chip LED; BLUE; Body 2.0 x 1.3 mm (LxW typ) [2012])
footprint LED-0805 GREEN (Chip LED; GREEN; Body 2.0 x 1.3 mm (LxW typ) [2012])
footprint LED-0805 ORANGE (Chip LED; ORANGE; Body 2.0 x 1.3 mm (LxW typ) [2012])
footprint LED-0805 RED (Chip LED; RED; Body 2.0 x 1.3 mm (LxW typ) [2012])
footprint LED-0805 YELLOW (Chip LED; YELLOW; Body 2.0 x 1.3 mm (LxW typ) [2012])
pins: 1 A, 2 K

## LED7SEG 4
designator U?, comment LED7
footprint LED7MINI (oki)
pins: 1 e, 2 d, 3 dot, 4 c, 5 g, 6 led1, 7 b, 8 led2, 9 led3, 10 f, 11 a, 12 led4
text: LED7SEG

## Led7Segs
designator L7D?  (value not drawn)
Led 7 doan; Vendor: Digikey; Published: 13-April-2009; Publisher: Hoang Nguyen; ComponentLink1Description: Digikey Part Link; ComponentLink2Description: Open Datasheet; ComponentLink2URL: H:\LIBRARY\LIBRARY.Datasheet\
footprint led7seg (led 7 doan)
footprint Led7seg small
pins: 1 E (in), 2 D (in), 3 V1 (power), 4 C (in), 5 DP (in), 6 B (in), 7 A (in), 8 V2 (power), 9 F (in), 10 G (in)

## Led Matrix 5x7
designator U?
Vendor: Digikey; Published: 13-April-2009; Publisher: Hoang Nguyen; ComponentLink1Description: Digikey Part Link; ComponentLink2Description: Open Datasheet; ComponentLink2URL: H:\LIBRARY\LIBRARY.Datasheet\
pins: 1, 2, 3, 4, 5, 6, 7, 8, 9, A, B, C, D, E, F, G, H, K

## Led Matrix 5x8
designator LM?
Vendor: Digikey; Published: 13-April-2009; Publisher: Hoang Nguyen; ComponentLink1Description: Digikey Part Link; ComponentLink2Description: Open Datasheet; ComponentLink2URL: H:\LIBRARY\LIBRARY.Datasheet\
footprint LEDMATRIX_5x8
pins: 1 GC1, 2 GC2, 3 RC2, 4 RC3, 5 R6, 6 R7, 7 RC4, 8 R5, 9 R8, 10 GC5, 11 RC5, 12 GC4, 13 GC3, 14 R4, 15 R2, 16 R1, 17 R3, 18 RC1

## Led Matrix 8x8
designator U?
Vendor: Digikey; Published: 13-April-2009; Publisher: Hoang Nguyen; ComponentLink1Description: Digikey Part Link; ComponentLink2Description: Open Datasheet; ComponentLink2URL: H:\LIBRARY\LIBRARY.Datasheet\
pins: 1 D5, 2 X5, 3 H5, 4 D6, 5 X6, 6 H6, 7 D7, 8 X7, 9 H7, 10 D8, 11 X8, 12 H8, 13 H4, 14 X4, 15 D4, 16 H3, 17 X3, 18 D3, 19 H2, 20 X2, 21 D2, 22 H1, 23 X1, 24 D1

## Led Matrix 8x8 d
designator U?  (value not drawn)
Led Matric; Vendor: Digikey; Published: 13-April-2009; Publisher: Hoang Nguyen; ComponentLink1Description: Digikey Part Link; ComponentLink2Description: Open Datasheet; ComponentLink2URL: H:\LIBRARY\LIBRARY.Datasheet\
footprint LEDMATRIX_5x8
pins: 1 GC1, 2 GC2, 3 RC2, 4 RC3, 5 R6, 6 R7, 7 RC4, 8 R5, 9 R8, 10 GC5, 11 RC5, 12 GC4, 13 GC3, 14 R4, 15 R2, 16 R1, 17 R3, 18 RC1, 19 erawe, 20 erawe, 21 erawe, 22 erawe, 23 erawe, 24 erawe

## LED-Bar
designator D?, comment LED Bar
10 LED, Bar
footprint LED-Bar (LED Bar; 10 Indicator; Solder Pad 35mil)
pins: 1, 2, 3, 4, 5, 6, 7, 8, 9, 10, 11, 12, 13, 14, 15, 16, 17, 18, 19, 20

## LED_1
designator LED?, comment HSMH-C170
Typical GaAs SMD LED; Manufacturer: Lite-On Inc; Color: RED; Type: Cong ty RP; Vendor: Digikey; Publisher: Hoang Nguyen; Price: *; Published: 13-April-2009; ComponentLink1Description: Digikey Part Link; ComponentLink2Description: Open Datasheet; ComponentLink2URL: H:\LIBRARY\LIBRARY.Datasheet\
footprint LED.SMD.GREEN
footprint LED.SMD.RED
footprint LED.SMD.WHITE
footprint Led 3mm
footprint Led 3mm 1 (Led 3mm)
footprint Led 5mm
footprint Led 3mm_2 (Led 3mm)
pins: 1 A, 2 K

## LEDMT
designator U?, comment LED MT 8x8 dual color
pins: 1 red5, 2 gre5, 3 col5, 4 red6, 5 gre6, 6 col6, 7 red7, 8 gre7, 9 col7, 10 red8, 11 gre8, 12 col8, 13 col4, 14 gre4, 15 red4, 16 col3, 17 gre3, 18 red3, 19 col2, 20 gre2, 21 red2, 22 col1, 23 gre1, 24  red1

## LEM HX-20P
designator U?
20A Current Transducer
footprint HX-20P (Current Transducer HX Series; 3-25A)
pins: 1 V-, 2 0, 3 V+, 4 OUT, 5 IN+, 6 IN-

## LEM LV-25P
designator U?
500V VoltageTransducer
footprint LV-25P (Voltage Transducer LV Series; 500V)
pins: 1 HT+, 2 HT-, 3 M, 4 +, 5 -

## LGA-14
designator U?
footprint LGA-14N (LGA, 14-Leads, Body 3x5x0.92mm, Pitch 0.8mm, IPC Medium Density)
pins: 1, 2, 3, 4, 5, 6, 7, 8, 9, 10, 11, 12, 13, 14

## LM35
designator U?
Precision CentigradeTemperature Sensor; Published: 15-Apr-2002; DatasheetVersion: Sep-1997; PackageVersion: 2000; PackageReference: Z03A; Publisher: Altium Limited; PackageDescription: TO, Flat Index; 3 In-Line, Axial Leads; Body Dia. 4.6mm; Leads 0.53 x 0.39 mm (max); ComponentLink1Description: Manufacturer Link; ComponentLink1URL: http://www.national.com/; ComponentLink2Description: Datasheet; ComponentLink2URL: http://www.national.com/ds.cgi/LM/LM35.pdf; ComponentLink3Description: URL Link1; ComponentLink3URL: http://www.national.com/pf/LM/LM35.html
footprint TO92 (TO, Flat Index; 3 In-Line, Axial Leads; Body Dia. 4.6mm; Leads 0.53 x 0.39 mm (max))
pins: 1 GND (power), 2 VOUT (out), 3 +VS (power)

## LM78LXX
designator U?
3-Terminal Positive Regulator; Note: Case is connected to GND; ComponentAvailability: Obsolete; Published: 15-Apr-2002; DatasheetVersion: Jan-1995; PackageVersion: May-1994; PackageReference: H03A; Publisher: Altium Limited; PackageDescription: Can; 3 Leads; Pin Circle Dia. 5.08 mm; Lead Dia. 0.48 mm (max); Code_JEDEC: TO-39; ComponentLink1Description: Manufacturer Link; ComponentLink1URL: http://www.national.com/; ComponentLink2Description: Discontinuation Notice; ComponentLink2URL: http://www.national.com/obs/obsolescence.txt; ComponentLink3Description: URL Link1; ComponentLink3URL: http://www.national.com/pf/LM/LM78L05.html
footprint TO92 (TO, Flat Index; 3 In-Line, Axial Leads; Body Dia. 4.6mm; Leads 0.53 x 0.39 mm (max))
pins: 1 IN (power), 2 GND (power), 3 OUT (power)

## LM78MXX
designator U?
3-Terminal Positive Voltage Regulator; Note: Case is connected to GND; Published: 15-Apr-2002; DatasheetVersion: Jul-1999; PackageVersion: May-1994; PackageReference: H03A; Publisher: Altium Limited; PackageDescription: Can; 3 Leads; Pin Circle Dia. 5.08 mm; Lead Dia. 0.48 mm (max); Code_JEDEC: TO-39; ComponentLink1Description: Manufacturer Link; ComponentLink1URL: http://www.national.com/; ComponentLink2Description: Datasheet; ComponentLink2URL: http://www.national.com/ds.cgi/LM/LM341.pdf; ComponentLink3Description: URL Link1; ComponentLink3URL: http://www.national.com/pf/LM/LM78M05.html
footprint TO220V (TO, Thru-Hole, Vertical, Heatsink Mounted; 3 In-Line Leads; Pitch 2.54 mm)
footprint TO220H (TO, Thru-Hole, Horizontal Heatsink Mounted; 3 In-Line Leads; Pitch 2.54 mm)
pins: 1 IN (power), 2 GND (power), 3 OUT (power)

## LM78xx
designator U?  (value not drawn)
Regulator; Manufacturer: Fairchild Semiconductor Corporation; PSpiceTemplate: X^@REFDES %IN %OUT %GND @MODEL; Vendor: Digikey; Output Current: Up to 1A; V out: 5V; Tolerance: 4 %; Value: LM7805CT; Published: 13-April-2009; Publisher: Hoang Nguyen; ComponentLink1Description: Digikey Part Link; ComponentLink2Description: Open Datasheet; ComponentLink2URL: H:\LIBRARY\LIBRARY.Datasheet\LM7805.pdf; Price: 2500 VND
footprint TO-220
simulation model LM7805C
footprint TO220_Horizontal (TO, Thru-Hole, Horizontal Heatsink Mounted; 3 In-Line Leads; Pitch 2.54 mm)
footprint TO-263
pins: 1 IN (in), 2 GND (power), 3 OUT (out)

## LM79LXX
designator U?, comment 79LXX
3-Terminal Negative Regulator; Published: 15-Apr-2002; DatasheetVersion: Jul-1999; PackageVersion: 2000; PackageReference: Z03A; Publisher: Altium Limited; PackageDescription: TO, Flat Index; 3 In-Line, Axial Leads; Body Dia. 4.6mm; Leads 0.53 x 0.39 mm (max); ComponentLink1Description: Manufacturer Link; ComponentLink1URL: http://www.national.com/; ComponentLink2Description: Datasheet; ComponentLink2URL: http://www.national.com/ds.cgi/LM/LM320L.pdf; ComponentLink3Description: URL Link1; ComponentLink3URL: http://www.national.com/pf/LM/LM79L05.html
footprint TO92 (TO, Flat Index; 3 In-Line, Axial Leads; Body Dia. 4.6mm; Leads 0.53 x 0.39 mm (max))
pins: 1 OUT (power), 2 IN (power), 3 GND (power)

## LM79MXX
designator U?
3-Terminal Negative Voltage Regulator; Note: Case is connected to GND; Published: 15-Apr-2002; DatasheetVersion: Jul-1999; PackageVersion: May-1994; PackageReference: H03A; Publisher: Altium Limited; PackageDescription: Can; 3 Leads; Pin Circle Dia. 5.08 mm; Lead Dia. 0.48 mm (max); Code_JEDEC: TO-39; ComponentLink1Description: Manufacturer Link; ComponentLink1URL: http://www.national.com/; ComponentLink2Description: Datasheet; ComponentLink2URL: http://www.national.com/ds.cgi/LM/LM341.pdf; ComponentLink3Description: URL Link1; ComponentLink3URL: http://www.national.com/pf/LM/LM78M05.html
footprint TO220H (TO, Thru-Hole, Horizontal Heatsink Mounted; 3 In-Line Leads; Pitch 2.54 mm)
footprint TO220V (TO, Thru-Hole, Vertical, Heatsink Mounted; 3 In-Line Leads; Pitch 2.54 mm)
pins: 1 GND (power), 2 IN (power), 3 OUT (power)

## LM79xx
designator U?
PSpiceTemplate: X^@REFDES %IN %OUT %GND @MODEL; Vendor: Digikey; Published: 13-April-2009; Publisher: Hoang Nguyen; ComponentLink1Description: Digikey Part Link; ComponentLink2Description: Open Datasheet; ComponentLink2URL: H:\LIBRARY\LIBRARY.Datasheet\
footprint TO-3
simulation model LM7905C
pins: 1 GND (power), 2 OUT (out), 3 IN (in)

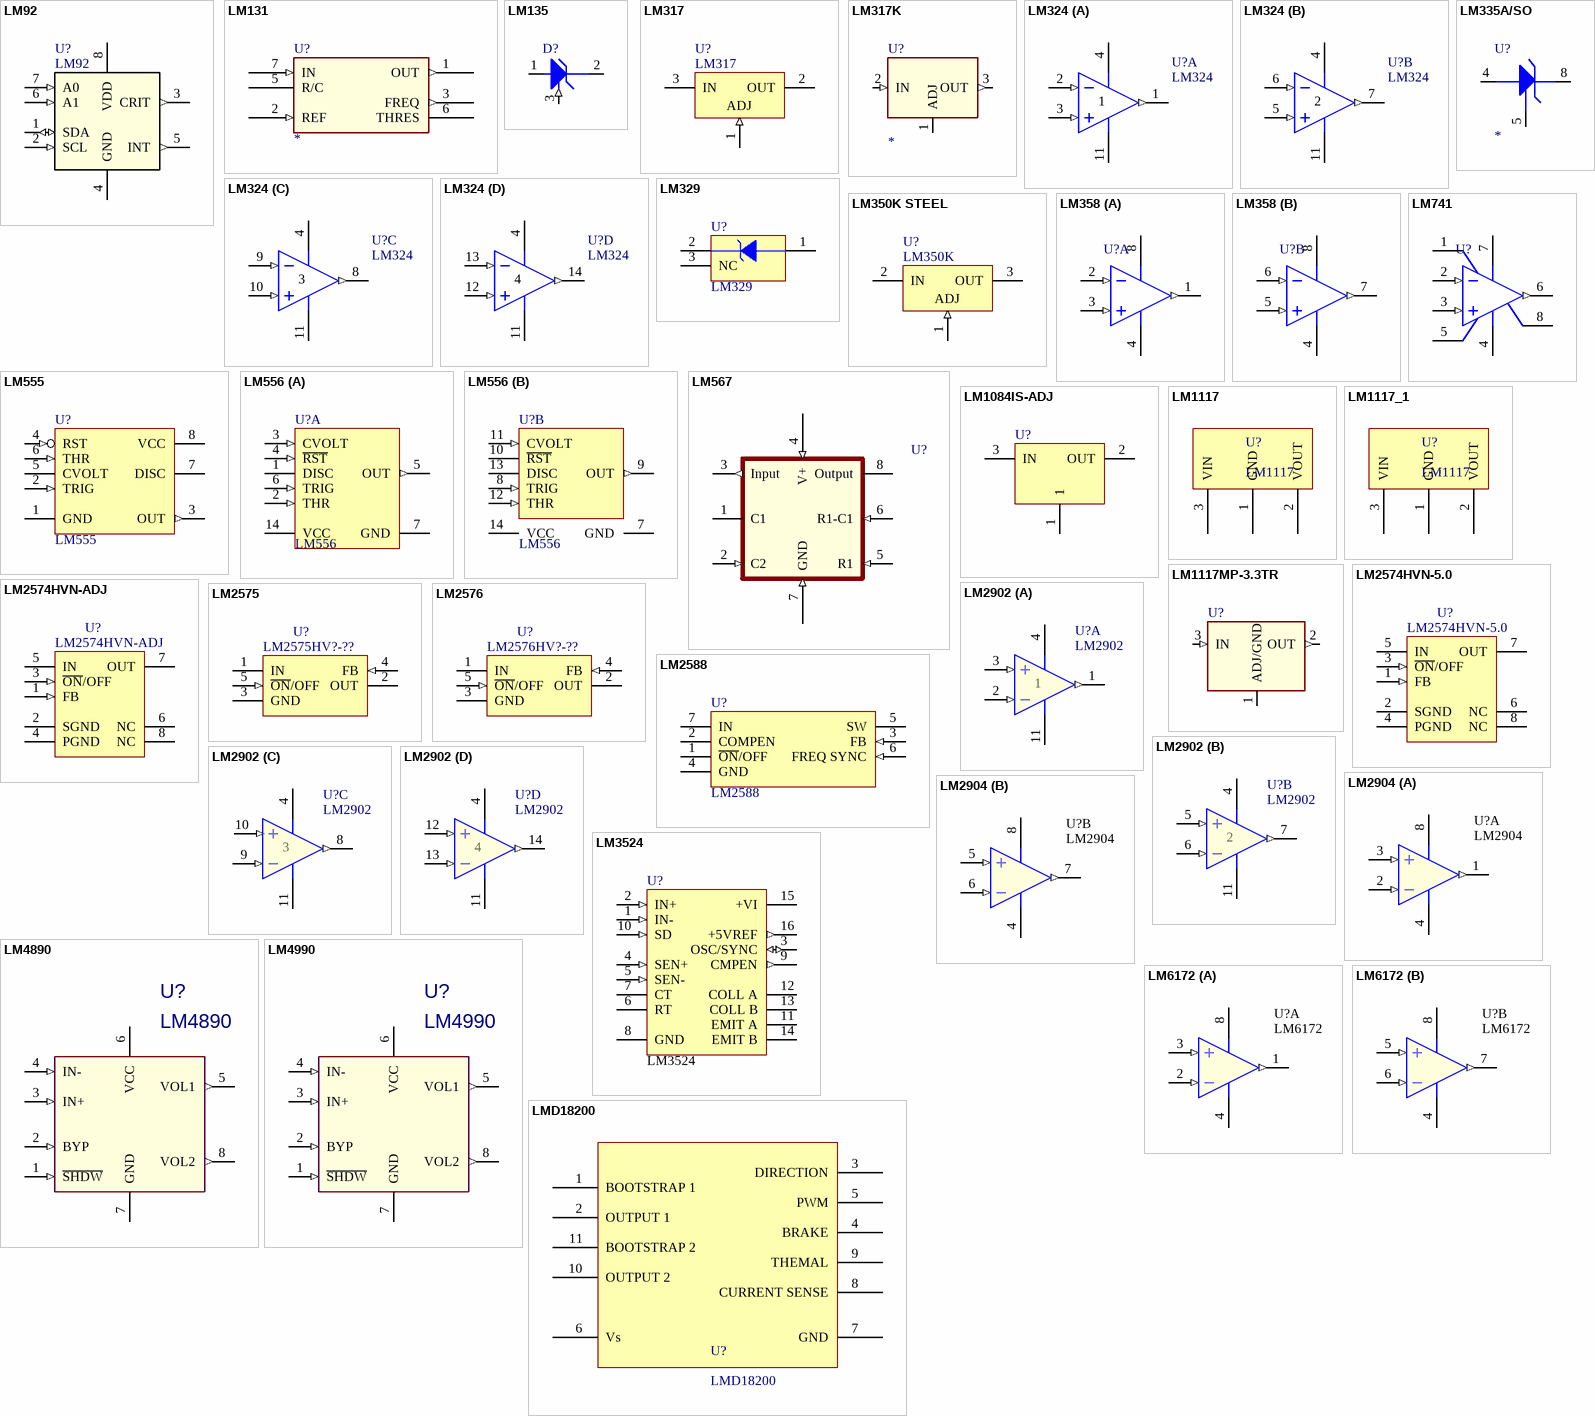
[diagram p15: symbols LM92 to LMD18200]

## LM92
designator U?
Seria I"CBus Precision Temperature Sensor; ComponentLink2URL: H:\LIBRARY\LIBRARY.Datasheet\
footprint SOIC8 (SOIC, 8-Leads, Body 4.9x3.9mm, Pitch 1.27mm, IPC Medium Density)
pins: 1 SDA (io), 2 SCL (in), 3 CRIT (out), 4 GND (power), 5 INT (out), 6 A1 (in), 7 A0 (in), 8 VDD (power)

## LM131
designator U?
Vendor: Digikey; Published: 13-April-2009; Publisher: Hoang Nguyen; ComponentLink1Description: Digikey Part Link; ComponentLink2Description: Open Datasheet; ComponentLink2URL: H:\LIBRARY\LIBRARY.Datasheet\
pins: 1 OUT (out), 2 REF (in), 3 FREQ (out), 4 GND (power) hidden to GND, 5 R/C, 6 THRES, 7 IN (in), 8 VS (power) hidden to VS

## LM135
designator D?  (value not drawn)
Precision Temperature Sensors; Vendor: Digikey; Published: 13-April-2009; Publisher: Hoang Nguyen; ComponentLink1Description: Digikey Part Link; ComponentLink2Description: Open Datasheet; ComponentLink2URL: H:\LIBRARY\LIBRARY.Datasheet\Lm135-235-335.pdf; Price: 15.000 VND
footprint TO92-ECB (C1815)
pins: 1 A, 2 CATHODE, 3 VREF (in)

## LM317
designator U?
3-Terminal Adjustable Regulator; Note: Tab is connected to Output; Published: 15-Apr-2002; DatasheetVersion: May-1999; PackageVersion: 1995; PackageReference: T03B; Publisher: Altium Limited; PackageDescription: TO, Thru-Hole, Vertical, Heatsink Mounted; 3 In-Line Leads; Pitch 2.54 mm; ComponentLink1Description: Manufacturer Link; ComponentLink1URL: http://www.national.com/; ComponentLink2Description: Datasheet; ComponentLink2URL: http://www.national.com/ds.cgi/LM/LM117HV.pdf; ComponentLink3Description: URL Link1; ComponentLink3URL: http://www.national.com/pf/LM/LM317HV.html
footprint TO220H (TO, Thru-Hole, Horizontal Heatsink Mounted; 3 In-Line Leads; Pitch 2.54 mm)
footprint TO220V (TO, Thru-Hole, Vertical, Heatsink Mounted; 3 In-Line Leads; Pitch 2.54 mm)
pins: 1 ADJ (in), 2 OUT (power), 3 IN (power)

## LM317K
designator U?
PSpiceTemplate: X^@REFDES %IN %ADJ %OUT @MODEL; Vendor: Digikey; Published: 13-April-2009; Publisher: Hoang Nguyen; ComponentLink1Description: Digikey Part Link; ComponentLink2Description: Open Datasheet; ComponentLink2URL: H:\LIBRARY\LIBRARY.Datasheet\
footprint TO-3
simulation model LM317
pins: 1 ADJ, 2 IN (in), 3 OUT (out)

## LM324
designator U?
Low-Power Quad Operational Amplifier; Published: 15-Apr-2002; LatestRevisionDate: 06-Jun-2005; LatestRevisionNote: Stylized 3D Model Added.; DatasheetVersion: May-1999; PackageVersion: 2000; PackageReference: N14A; Publisher: Altium Limited; PackageDescription: DIP; 14 Leads; Row Spacing 7.62 mm; Pitch 2.54 mm; ComponentLink1Description: Manufacturer Link; ComponentLink1URL: http://www.national.com/; ComponentLink2Description: Datasheet; ComponentLink2URL: http://www.national.com/ds.cgi/LM/LM124.pdf; ComponentLink3Description: URL Link1; ComponentLink3URL: http://www.national.com/pf/LM/LM324.html
footprint DIP-14 (DIP, 14-Pin, Row Spacing 7.62 mm, Pitch 2.54 mm)
pins on every part: 4 V+ (power), 11 GND (power)
part A pins: 1 OUT (out), 2 IN- (in), 3 IN+ (in)
part B pins: 5 IN+ (in), 6 IN- (in), 7 OUT (out)
part C pins: 8 OUT (out), 9 IN- (in), 10 IN+ (in)
part D pins: 12 IN+ (in), 13 IN- (in), 14 OUT (out)

## LM329
designator U?
Precision Reference; ComponentAvailability: Obsolete; Published: 15-Apr-2002; LatestRevisionDate: 17-Jan-2003; LatestRevisionNote: PCB Footprint 'BCY-W3/Y1' replaced; DatasheetVersion: Dec-1994; PackageVersion: 2000; PackageReference: Z03A-D; Publisher: Altium Limited; PackageDescription: TO, Flat Index; 3 In-Line, Axial Leads; Body Dia. 4.6mm; Leads 0.53 x 0.39 mm (max); ComponentLink1Description: Manufacturer Link; ComponentLink1URL: http://www.national.com/; ComponentLink2Description: Discontinuation Notice; ComponentLink2URL: http://www.national.com/obs/obsolescence.txt; ComponentLink3Description: URL Link1; ComponentLink3URL: http://www.national.com/pf/LM/LM329.html
footprint TO92 (TO, Flat Index; 3 In-Line, Axial Leads; Body Dia. 4.6mm; Leads 0.53 x 0.39 mm (max))
pins: 1 V- (power), 2 V+ (power), 3 NC

## LM335A/SO
designator U?
Vendor: Digikey; Published: 13-April-2009; Publisher: Hoang Nguyen; ComponentLink1Description: Digikey Part Link; ComponentLink2Description: Open Datasheet; ComponentLink2URL: H:\LIBRARY\LIBRARY.Datasheet\
pins: 4 -, 5 ADJ, 8 +

## LM350K STEEL
designator U?, comment LM350K
3 Amp Adjustable Regulator; Note: Case is connected to Output; Published: 15-Apr-2002; DatasheetVersion: May-1998; PackageVersion: 2000; PackageReference: K02A; Publisher: Altium Limited; PackageDescription: Oval Flange Mount with (2) Offset Leads; Pin Spacing 10.93 mm; Lead Dia. 1.09 mm (max); ComponentLink1Description: Manufacturer Link; ComponentLink1URL: http://www.national.com/; ComponentLink2Description: Datasheet; ComponentLink2URL: http://www.national.com/ds.cgi/LM/LM150.pdf; ComponentLink3Description: URL Link1; ComponentLink3URL: http://www.national.com/pf/LM/LM350.html
footprint TO3 (Oval Flange Mount with (2) Offset Leads; Pin Spacing 10.93 mm; Lead Dia. 1.09 mm (max))
pins: 1 ADJ (in), 2 IN (power), 3 OUT (power)

## LM358
designator U?
Low Power Dual Operational Amplifier, 8-pin MDIP; PartNumber: LM358AN; Manufacturer: National Semiconductor; PackageTopMarking: NSUZXYTTE#*LM*358AN; PowerWise: N; CompType: Amplifiers; Published: 4-Dec-2008; LatestRevisionDate: 13-Jan-2009; LatestRevisionNote: Sim Model Added.; DatasheetVersion: Oct-2005; PackageVersion: revG, May-2006; PackageReference: N08E; Publisher: Altium Limited; PackageDescription: MDIP, .365 x .250 x .130in, 8 Lead, .100in Pitch; Supplier 1: Farnell; Supplier Part Number 1: 9486810; RoHS: N; PinCount: 8; Code_JEDEC: MS-001-BA; ComponentLink1Description: LM358 Datasheet; ComponentLink1URL: http://www.national.com/ds/LM/LM358.pdf; ComponentLink2Description: LM358 Web Page; ComponentLink2URL: http://www.national.com/pf/LM/LM358.html; ComponentLink3Description: N08E Package Page; ComponentLink3URL: http://www.national.com/packaging/folders/n08e.html
footprint DIP-8 (DIP, 8-Pin, Row Spacing 7.62 mm, Pitch 2.54 mm)
simulation model LM358 (SUBCKT)
pins on every part: 4 GND (power), 8 V+ (power)
part A pins: 1 OUTA (out), 2 INA- (in), 3 INA+ (in)
part B pins: 5 INB+ (in), 6 INB- (in), 7 OUTB (out)

## LM555
designator U?
Timer; ComponentAvailability: Obsolete; Published: 15-Apr-2002; LatestRevisionDate: 06-Jun-2005; LatestRevisionNote: Stylized 3D Model Added.; DatasheetVersion: May-1997; PackageVersion: 2000; PackageReference: J08A; Publisher: Altium Limited; PackageDescription: DIP; 8 Leads; Row Spacing 7.62 mm; Pitch 2.54 mm; ComponentLink1Description: Manufacturer Link; ComponentLink1URL: http://www.national.com/; ComponentLink2Description: Datasheet; ComponentLink2URL: http://www.national.com/ds.cgi/LM/LM555.pdf; ComponentLink3Description: Discontinuation Notice; ComponentLink3URL: http://www.national.com/obs/obsolescence.txt; ComponentLink4Description: URL Link1; ComponentLink4URL: http://www.national.com/pf/LM/LM555.html
footprint DIP-8 (DIP, 8-Pin, Row Spacing 7.62 mm, Pitch 2.54 mm)
pins: 1 GND (power), 2 TRIG (in), 3 OUT (out), 4 RST (in), 5 CVOLT, 6 THR (in), 7 DISC (oc), 8 VCC (power)

## LM556
designator U?
Dual Timer; ComponentAvailability: Obsolete; Published: 15-Apr-2002; LatestRevisionDate: 06-Jun-2005; LatestRevisionNote: Stylized 3D Model Added.; DatasheetVersion: Feb-1995; PackageVersion: 2000; PackageReference: J14A; Publisher: Altium Limited; PackageDescription: DIP; 14 Leads; Row Spacing 7.62 mm; Pitch 2.54 mm; ComponentLink1Description: Manufacturer Link; ComponentLink1URL: http://www.national.com/; ComponentLink2Description: Datasheet; ComponentLink2URL: http://www.national.com/ds.cgi/LM/LM556.pdf; ComponentLink3Description: Discontinuation Notice; ComponentLink3URL: http://www.national.com/obs/obsolescence.txt; ComponentLink4Description: URL Link1; ComponentLink4URL: http://www.national.com/pf/LM/LM556.html
footprint DIP-14 (DIP; 14 Leads; Row Spacing 7.62 mm; Pitch 2.54 mm)
pins on every part: 7 GND (power), 14 VCC (power)
part A pins: 1 DISC (oc), 2 THR (in), 3 CVOLT (in), 4 ~{RST} (in), 5 OUT (out), 6 TRIG (in)
part B pins: 8 TRIG (in), 9 OUT (out), 10 ~{RST}, 11 CVOLT (in), 12 THR (in), 13 DISC (oc)

## LM567
designator U?  (value not drawn)
General purpose tone decoders; Manufacturer: National Semiconductor Corporation; Vendor: Digikey; Bandwidth: adjustable from 0 to 14%; Center frequency: Adjustable from 0.01 Hz to 500 kHz; Published: 13-April-2009; Publisher: Hoang Nguyen; ComponentLink1Description: Digikey Part Link; ComponentLink2Description: Open Datasheet; ComponentLink2URL: H:\LIBRARY\LIBRARY.Datasheet\LM567.pdf
footprint IC14N
pins: 1 C1 (power), 2 C2 (in), 3 Input (out), 4 V+ (in), 5 R1 (in), 6 R1-C1 (in), 7 GND (in), 8 Output (power)

## LM741
designator U?
Operational Amplifier, 8-pin MDIP; PartNumber: LM741CN; Manufacturer: National Semiconductor; PackageTopMarking: NSUZXYTTE#*LM*741CN; PowerWise: N; CompType: Amplifiers; Published: 4-Dec-2008; LatestRevisionDate: 13-Jan-2009; LatestRevisionNote: Sim Model Added.; DatasheetVersion: Aug-2000; PackageVersion: revG, May-2006; PackageReference: N08E; Publisher: Altium Limited; PackageDescription: MDIP, .365 x .250 x .130in, 8 Lead, .100in Pitch; Supplier 1: Farnell; Supplier Part Number 1: 1523833; Supplier 2: Farnell; Supplier Part Number 2: 9486780; RoHS: N; PinCount: 8; Code_JEDEC: MS-001-BA; ComponentLink1Description: LM741 Datasheet; ComponentLink1URL: http://www.national.com/ds/LM/LM741.pdf; ComponentLink2Description: LM741 Web Page; ComponentLink2URL: http://www.national.com/pf/LM/LM741.html; ComponentLink3Description: N08E Package Page; ComponentLink3URL: http://www.national.com/packaging/folders/n08e.html
footprint DIP-8 (DIP, 8-Pin, Row Spacing 7.62 mm, Pitch 2.54 mm)
simulation model LM741 (SUBCKT)
pins: 1 OFS NULL, 2 IN- (in), 3 IN+ (in), 4 V- (power), 5 OFS NULL, 6 OUT (out), 7 V+ (power), 8 NC

## LM1084IS-ADJ
designator U?
5A Low Dropout Positive Regulators; Vendor: Digikey; Published: 5-Jan-2004; DatasheetDocument: Aug-2002; Publisher: Altium Limited; ComponentLink1Description: Digikey Part Link; ComponentLink2Description: Open Datasheet; ComponentLink2URL: H:\LIBRARY\LIBRARY.Datasheet\
footprint TO-263 (TO-263-AB; 3 Leads (1 Cropped); Body 14.35 (inc. leads) x 10.41 mm (LxW max))
pcadlib TO-263 (TO-263-AB; 3 Leads (1 Cropped); Body 14.35 (inc. leads) x 10.41 mm (LxW max))
pins: 1 "Output", 2 OUT (power) "Output", 3 IN (power) "Input"

## LM1117
designator U?
footprint SOT-223 (SOT-223/SC-73; 4 Leads; Body 6.7 x 7.3 mm, inc. leads (LxW max))
pins: 1 GND, 2 VOUT, 3 VIN

## LM1117_1
designator U?, comment LM1117
footprint SOT-223 (SOT-223/SC-73; 4 Leads; Body 6.7 x 7.3 mm, inc. leads (LxW max))
pins: 1 GND, 2 VOUT, 3 VIN

## LM1117MP-3.3TR
designator U?  (value not drawn)
3.3V 800mA Low-Dropout Linear Regulator; PSpiceTemplate: X^@REFDES %IN %OUT %GND @MODEL; Vendor: Digikey; Volt (Max): 20V; Publisher: Hoang Nguyen; ComponentLink1URL: http://search.digikey.com/scripts/DkSearch/dksus.dll?Detail&name=LM1117MP-3.3TR-ND; ComponentLink1Description: Digikey Part Link; ComponentLink2Description: Open Datasheet; ComponentLink2URL: H:\LIBRARY\LIBRARY.Datasheet\LM1117.pdf; Published: 13-April-2009; V out: 3.3V; Output Current (max): 800mA; Price: 4.000 VND
footprint SOT-223 3-Lead
footprint SOT-223 3N
footprint TO-252
pins: 1 ADJ/GND (power), 2 OUT (out), 3 IN (in)

## LM2574HVN-5.0
designator U?
Simple Switcher 0.5A Step Down Voltage Regulator; Published: 15-Apr-2002; LatestRevisionDate: 06-Jun-2005; LatestRevisionNote: Stylized 3D Model Added.; DatasheetVersion: Jun-1999; PackageVersion: Sep-1997; PackageReference: N08E; Publisher: Altium Limited; PackageDescription: DIP; 8 Leads; Row Spacing 7.62 mm; Pitch 2.54 mm; ComponentLink1Description: Manufacturer Link; ComponentLink1URL: http://www.national.com/; ComponentLink2Description: Datasheet; ComponentLink2URL: http://www.national.com/ds.cgi/LM/LM2574.pdf; ComponentLink3Description: URL Link1; ComponentLink3URL: http://www.national.com/pf/LM/LM2574HV.html
footprint DIP-8 (DIP; 8 Leads; Row Spacing 7.62 mm; Pitch 2.54 mm)
pins: 1 FB (in), 2 SGND (power), 3 ~{ON}/OFF (in), 4 PGND (power), 5 IN (power), 6 NC, 7 OUT (power), 8 NC

## LM2574HVN-ADJ
designator U?
Simple Switcher 0.5A Step Down Voltage Regulator; Published: 15-Apr-2002; LatestRevisionDate: 06-Jun-2005; LatestRevisionNote: Stylized 3D Model Added.; DatasheetVersion: Jun-1999; PackageVersion: Sep-1997; PackageReference: N08E; Publisher: Altium Limited; PackageDescription: DIP; 8 Leads; Row Spacing 7.62 mm; Pitch 2.54 mm; ComponentLink1Description: Manufacturer Link; ComponentLink1URL: http://www.national.com/; ComponentLink2Description: Datasheet; ComponentLink2URL: http://www.national.com/ds.cgi/LM/LM2574.pdf; ComponentLink3Description: URL Link1; ComponentLink3URL: http://www.national.com/pf/LM/LM2574HV.html
footprint DIP-8 (DIP; 8 Leads; Row Spacing 7.62 mm; Pitch 2.54 mm)
pins: 1 FB (in), 2 SGND (power), 3 ~{ON}/OFF (in), 4 PGND (power), 5 IN (power), 6 NC, 7 OUT (power), 8 NC

## LM2575
designator U?, comment LM2575HV?-??
Simple Switcher 1A Step Down Voltage Regulator; Note: Tab is connected to GND; Published: 15-Apr-2002; DatasheetVersion: May-1999; PackageVersion: 2000; PackageReference: T05A; Publisher: Altium Limited; PackageDescription: TO, Thru-Hole, Vertical, Heatsink Mounted; 5 In-Line Leads; Pitch 1.70 mm; Code_JEDEC: TS-001-AA; ComponentLink1Description: Manufacturer Link; ComponentLink1URL: http://www.national.com/; ComponentLink2Description: Datasheet; ComponentLink2URL: http://www.national.com/ds.cgi/LM/LM1575.pdf; ComponentLink3Description: URL Link1; ComponentLink3URL: http://www.national.com/pf/LM/LM2575HV.html
footprint TO220A-5-V (TO, Thru-Hole, Vertical, Heatsink Mounted; 5 In-Line Leads; Pitch 1.70 mm)
footprint TO220B-5-V (TO, Thru-Hole, Vertical, Heatsink Mounted; 5 Bent Staggered Leads; Pitch 1.7 mm)
footprint D2-PACK (D2-PAK; 5 Leads; Body 14.4 (inc. leads) x 10.4 mm (LxW max))
pins: 1 IN (power), 2 OUT (power), 3 GND (power), 4 FB (in), 5 ~{ON}/OFF (in)

## LM2576
designator U?, comment LM2576HV?-??
Simple Switcher 3A Step Down Voltage Regulator; Note: Tab is connected to GND; Published: 15-Apr-2002; DatasheetVersion: May-1999; PackageVersion: 2000; PackageReference: T05A; Publisher: Altium Limited; PackageDescription: TO, Thru-Hole, Vertical, Heatsink Mounted; 5 In-Line Leads; Pitch 1.70 mm; Code_JEDEC: TS-001-AA; ComponentLink1Description: Manufacturer Link; ComponentLink1URL: http://www.national.com/; ComponentLink2Description: Datasheet; ComponentLink2URL: H:\LIBRARY\LIBRARY.Datasheet\LM2576.pdf; ComponentLink3Description: URL Link1; ComponentLink3URL: http://www.national.com/pf/LM/LM2575HV.html; Price: 15000 VND
footprint TO220A-5-V (TO, Thru-Hole, Vertical, Heatsink Mounted; 5 In-Line Leads; Pitch 1.70 mm)
footprint TO220B-5-V (TO, Thru-Hole, Vertical, Heatsink Mounted; 5 Bent Staggered Leads; Pitch 1.7 mm)
footprint D2-PACK5 (D2-PAK; 5 Leads; Body 14.4 (inc. leads) x 10.4 mm (LxW max))
footprint LM2576
pins: 1 IN (power), 2 OUT (power), 3 GND (power), 4 FB (in), 5 ~{ON}/OFF (in)

## LM2588
designator U?
Simple Switcher 5A Flyback Regulator with Shutdown; Note: Tab is connected to GND; Published: 15-Apr-2002; DatasheetVersion: Apr-1998; PackageVersion: 1996; PackageReference: TA07B; Publisher: Altium Limited; PackageDescription: TO, Thru-Hole, Vertical, Heatsink Mounted; 7 Bent Staggered Leads; Pitch 1.27 mm; ComponentLink1Description: Manufacturer Link; ComponentLink1URL: http://www.national.com/; ComponentLink2Description: Datasheet; ComponentLink2URL: http://www.national.com/ds.cgi/LM/LM2588.pdf; ComponentLink3Description: URL Link1; ComponentLink3URL: http://www.national.com/pf/LM/LM2588.html
footprint TO-220-7 (TO-220; 7 Bent Staggered Leads; Solder Pad 35mil)
pins: 1 ~{ON}/OFF, 2 COMPEN, 3 FB (in), 4 GND (power), 5 SW (power), 6 FREQ SYNC (in), 7 IN (power)